# Altium schematic symbol library SCH - FET - N-CH - INFINEON MOSFET N-CH SOT-23-3 GDS.SCHLIB: 1 symbol
Pins are listed as number, name and electrical type; pins without a type are passive.

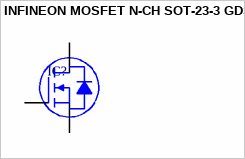
[diagram p0: symbol INFINEON MOSFET N-CH SOT-23-3 GDS]

## INFINEON MOSFET N-CH SOT-23-3 GDS
designator IC?
pins: 1 G, 2 D, 3 S